# EAGLE library part TPS61088 (library PowerIC)
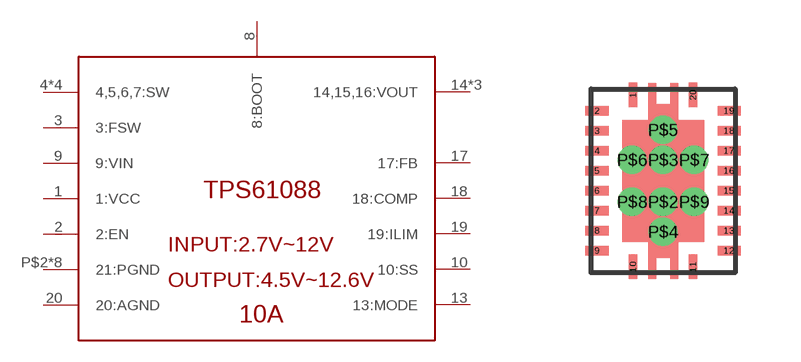
[diagram p0: symbol with the pads of VQFN20; footprint VQFN20]

Designator prefix -

## TPS61088  [VQFN20]
1  1:VCC  out
2  2:EN  in
3  3:FSW  in
4  4,5,6,7:SW  in
5  4,5,6,7:SW  in
6  4,5,6,7:SW  in
7  4,5,6,7:SW  in
8  8:BOOT  out
9  9:VIN  in
10  10:SS  out
13  13:MODE  in
14  14,15,16:VOUT  out
15  14,15,16:VOUT  out
16  14,15,16:VOUT  out
17  17:FB  in
18  18:COMP  out
19  19:ILIM  out
20  20:AGND  pwr
P$2  21:PGND  pwr
P$3  21:PGND  pwr
P$4  21:PGND  pwr
P$5  21:PGND  pwr
P$6  21:PGND  pwr
P$7  21:PGND  pwr
P$8  21:PGND  pwr
P$9  21:PGND  pwr

## Footprint VQFN20 (pad centres in mm)
smd 0.24 x 0.6: 1 -0.75,2.15; 10 -0.75,-2.15; 11 0.75,-2.15; 20 0.75,2.15
smd 0.6 x 0.24: 2 -1.65,1.75; 3 -1.65,1.25; 4 -1.65,0.75; 5 -1.65,0.25; 6 -1.65,-0.25; 7 -1.65,-0.75; 8 -1.65,-1.25; 9 -1.65,-1.75; 12 1.65,-1.75; 13 1.65,-1.25; 14 1.65,-0.75; 15 1.65,-0.25; 16 1.65,0.25; 17 1.65,0.75; 18 1.65,1.25; 19 1.65,1.75
drill 0.2 pad 0.406: P$2 0,-0.525; P$3 0,0.525; P$4 0,-1.275; P$5 0,1.275; P$6 -0.775,0.525; P$7 0.775,0.525; P$8 -0.775,-0.525; P$9 0.775,-0.525